# Altium schematic symbol library CH340G.SchLib: 1 symbol
Pins are listed as number, name and electrical type; pins without a type are passive.

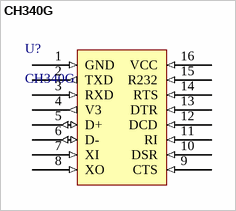
[diagram p0: symbol CH340G]

## CH340G
designator U?
USB to UART Interface
footprint TI SOP-16 D (SOP, 16-Leads, Body 9.90x3.90mm, Pitch 1.27mm, IPC Medium Density)
pins: 1 GND (in), 2 TXD (out), 3 RXD (in), 4 V3 (out), 5 D+ (io), 6 D- (io), 7 XI (in), 8 XO (in), 9 CTS (in), 10 DSR (in), 11 RI (in), 12 DCD (in), 13 DTR (in), 14 RTS (in), 15 R232 (in), 16 VCC (in)